# EAGLE library part FSIDE-10 (library con-amp)
AMP connector
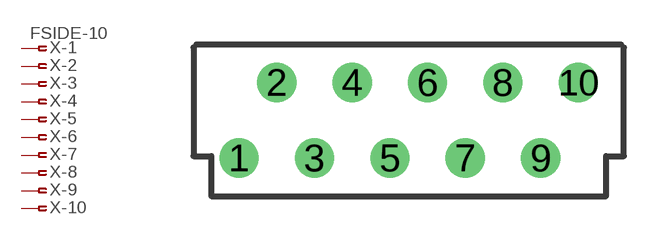
[diagram p102: symbol with the pads of FSIDE-10; footprint FSIDE-10]

Designator prefix X; gates -1=PIN-FV -2=PIN-F -3=PIN-F -4=PIN-F -5=PIN-F -6=PIN-F -7=PIN-F -8=PIN-F -9=PIN-F -10=PIN-F

## FSIDE-10 (OC_FARNELL: unknown; OC_NEWARK: unknown)  [FSIDE-10]
1  -1:1  pas
2  -2:1  pas
3  -3:1  pas
4  -4:1  pas
5  -5:1  pas
6  -6:1  pas
7  -7:1  pas
8  -8:1  pas
9  -9:1  pas
10  -10:1  pas

## Footprint FSIDE-10 (pad centres in mm)
AMP connector
drill 0.813 round: 1 -5.715,-1.27; 2 -4.445,1.27; 3 -3.175,-1.27; 4 -1.905,1.27; 5 -0.635,-1.27; 6 0.635,1.27; 7 1.905,-1.27; 8 3.175,1.27; 9 4.445,-1.27; 10 5.715,1.27